# Altium schematic symbol library ESP-01.SchLib: 1 symbol
Pins are listed as number, name and electrical type; pins without a type are passive.

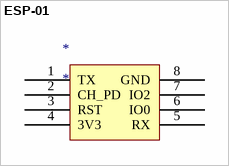
[diagram p0: symbol ESP-01]

## ESP-01
designator *
pins: 1 TX, 2 CH_PD, 3 RST, 4 3V3, 5 RX, 6 IO0, 7 IO2, 8 GND